# EAGLE library part STM32WLE5C8U6 (library STM32WLE5J8I6)
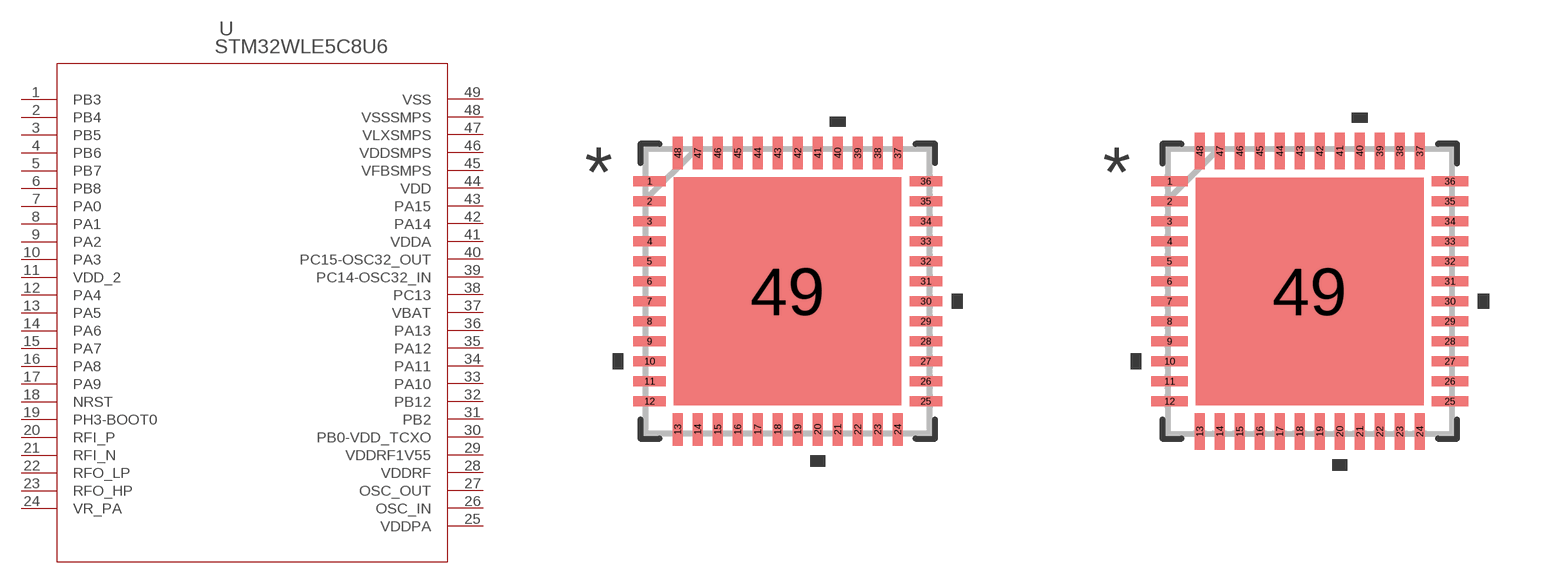
[diagram p1: symbol with the pads of UFQFPN48_7X7_STM; footprints UFQFPN48_7X7_STM, UFQFPN48_7X7_STM-M]

Designator prefix U

## STM32WLE5C8U6 (COPYRIGHT: Copyright (C) 2023 Ultra Librarian. All rights reserved.; MANUFACTURER_PART_NUMBER: STM32WLE5C8U6; MFR_NAME: STMicroelectronics)  [UFQFPN48_7X7_STM]
1  PB3
2  PB4
3  PB5
4  PB6
5  PB7
6  PB8
7  PA0
8  PA1
9  PA2
10  PA3
11  VDD_2  pwr
12  PA4
13  PA5
14  PA6
15  PA7
16  PA8
17  PA9
18  NRST
19  PH3-BOOT0
20  RFI_P  in
21  RFI_N  in
22  RFO_LP  out
23  RFO_HP  out
24  VR_PA  pwr
25  VDDPA  pwr
26  OSC_IN  in
27  OSC_OUT  out
28  VDDRF  pwr
29  VDDRF1V55  pwr
30  PB0-VDD_TCXO
31  PB2
32  PB12
33  PA10
34  PA11
35  PA12
36  PA13
37  VBAT  pwr
38  PC13
39  PC14-OSC32_IN
40  PC15-OSC32_OUT
41  VDDA  pwr
42  PA14
43  PA15
44  VDD  pwr
45  VFBSMPS  pwr
46  VDDSMPS  pwr
47  VLXSMPS  pwr
48  VSSSMPS  pas
49  VSS  pas

## STM32WLE5C8U6UFQFPN48_7X7_STM-M (COPYRIGHT: Copyright (C) 2023 Ultra Librarian. All rights reserved.; MANUFACTURER_PART_NUMBER: STM32WLE5C8U6; MFR_NAME: STMicroelectronics)  [UFQFPN48_7X7_STM-M]
Pads as for UFQFPN48_7X7_STM

## STM32WLE5C8U6UFQFPN48_7X7_STM-L (COPYRIGHT: Copyright (C) 2023 Ultra Librarian. All rights reserved.; MANUFACTURER_PART_NUMBER: STM32WLE5C8U6; MFR_NAME: STMicroelectronics)  [UFQFPN48_7X7_STM-L]
Pads as for UFQFPN48_7X7_STM

## Footprint UFQFPN48_7X7_STM (pad centres in mm)
smd 0.813 x 0.254: 1 -3.454,2.75; 2 -3.454,2.25; 3 -3.454,1.75; 4 -3.454,1.25; 5 -3.454,0.75; 6 -3.454,0.25; 7 -3.454,-0.25; 8 -3.454,-0.75; 9 -3.454,-1.25; 10 -3.454,-1.75; 11 -3.454,-2.25; 12 -3.454,-2.75; 25 3.454,-2.75; 26 3.454,-2.25; 27 3.454,-1.75; 28 3.454,-1.25; 29 3.454,-0.75; 30 3.454,-0.25; 31 3.454,0.25; 32 3.454,0.75; 33 3.454,1.25; 34 3.454,1.75; 35 3.454,2.25; 36 3.454,2.75
smd 0.254 x 0.813: 13 -2.75,-3.454; 14 -2.25,-3.454; 15 -1.75,-3.454; 16 -1.25,-3.454; 17 -0.75,-3.454; 18 -0.25,-3.454; 19 0.25,-3.454; 20 0.75,-3.454; 21 1.25,-3.454; 22 1.75,-3.454; 23 2.25,-3.454; 24 2.75,-3.454; 37 2.75,3.454; 38 2.25,3.454; 39 1.75,3.454; 40 1.25,3.454; 41 0.75,3.454; 42 0.25,3.454; 43 -0.25,3.454; 44 -0.75,3.454; 45 -1.25,3.454; 46 -1.75,3.454; 47 -2.25,3.454; 48 -2.75,3.454
smd 5.69 x 5.69: 49 0,0

## Footprint UFQFPN48_7X7_STM-M (pad centres in mm)
smd 0.914 x 0.254: 1 -3.505,2.75; 2 -3.505,2.25; 3 -3.505,1.75; 4 -3.505,1.25; 5 -3.505,0.75; 6 -3.505,0.25; 7 -3.505,-0.25; 8 -3.505,-0.75; 9 -3.505,-1.25; 10 -3.505,-1.75; 11 -3.505,-2.25; 12 -3.505,-2.75; 25 3.505,-2.75; 26 3.505,-2.25; 27 3.505,-1.75; 28 3.505,-1.25; 29 3.505,-0.75; 30 3.505,-0.25; 31 3.505,0.25; 32 3.505,0.75; 33 3.505,1.25; 34 3.505,1.75; 35 3.505,2.25; 36 3.505,2.75
smd 0.254 x 0.914: 13 -2.75,-3.505; 14 -2.25,-3.505; 15 -1.75,-3.505; 16 -1.25,-3.505; 17 -0.75,-3.505; 18 -0.25,-3.505; 19 0.25,-3.505; 20 0.75,-3.505; 21 1.25,-3.505; 22 1.75,-3.505; 23 2.25,-3.505; 24 2.75,-3.505; 37 2.75,3.505; 38 2.25,3.505; 39 1.75,3.505; 40 1.25,3.505; 41 0.75,3.505; 42 0.25,3.505; 43 -0.25,3.505; 44 -0.75,3.505; 45 -1.25,3.505; 46 -1.75,3.505; 47 -2.25,3.505; 48 -2.75,3.505
smd 5.69 x 5.69: 49 0,0

## Footprint UFQFPN48_7X7_STM-L (pad centres in mm)
smd 0.711 x 0.254: 1 -3.404,2.75; 2 -3.404,2.25; 3 -3.404,1.75; 4 -3.404,1.25; 5 -3.404,0.75; 6 -3.404,0.25; 7 -3.404,-0.25; 8 -3.404,-0.75; 9 -3.404,-1.25; 10 -3.404,-1.75; 11 -3.404,-2.25; 12 -3.404,-2.75; 25 3.404,-2.75; 26 3.404,-2.25; 27 3.404,-1.75; 28 3.404,-1.25; 29 3.404,-0.75; 30 3.404,-0.25; 31 3.404,0.25; 32 3.404,0.75; 33 3.404,1.25; 34 3.404,1.75; 35 3.404,2.25; 36 3.404,2.75
smd 0.254 x 0.711: 13 -2.75,-3.404; 14 -2.25,-3.404; 15 -1.75,-3.404; 16 -1.25,-3.404; 17 -0.75,-3.404; 18 -0.25,-3.404; 19 0.25,-3.404; 20 0.75,-3.404; 21 1.25,-3.404; 22 1.75,-3.404; 23 2.25,-3.404; 24 2.75,-3.404; 37 2.75,3.404; 38 2.25,3.404; 39 1.75,3.404; 40 1.25,3.404; 41 0.75,3.404; 42 0.25,3.404; 43 -0.25,3.404; 44 -0.75,3.404; 45 -1.25,3.404; 46 -1.75,3.404; 47 -2.25,3.404; 48 -2.75,3.404
smd 5.69 x 5.69: 49 0,0